# Altium footprint library TP_1PIN.PcbLib: 1 footprints
Each footprint in its own frame and in the unit in brackets; x right, y up, seen from the top. Pads: shape width x height; smd on the part's side, far side on the other; paste and mask are expansions set on the pad; w line width, h text height; cw(c..) or ccw(c..) is an arc to the next point about the centre after c.
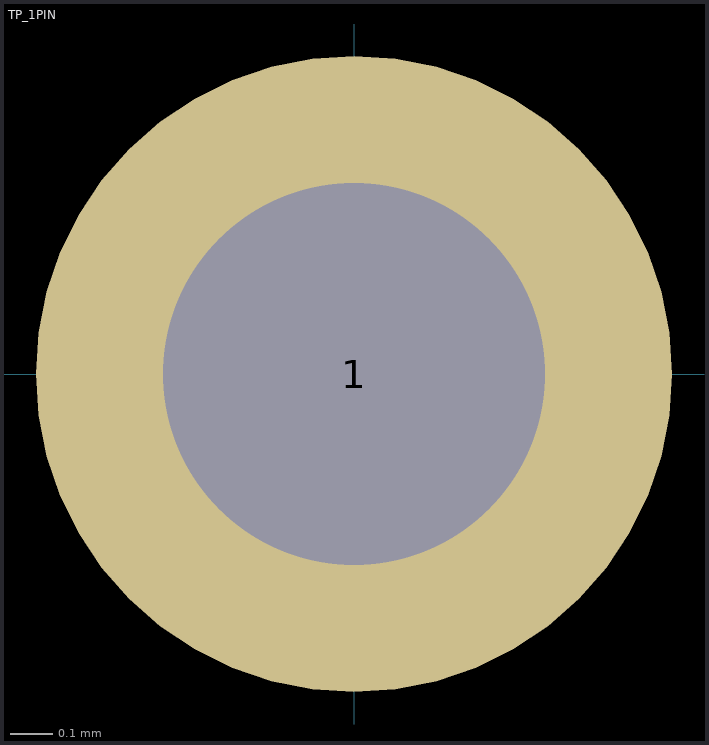
[diagram p0: the footprint, top view; thin cyan lines are the x and y axes]

## TP_1PIN [mm] "Testpoint; 1 Pin;"
pads (1):
  round 1.5 hole 0.9: 1(0,0)
3D body "User Library-TEST POINT BLU Keystone 5117.step": height 4.89, standoff -3.07, extent -1.27,-1.27 1.27,1.27